# EAGLE library part BTM-720 (library rayson__btm_bluetooth_modul)
The module is a Max.4dBm( Class2 ) module. Fully Qualified Bluetooth v2.0+EDR system. Integrated Switched-Mode Regulator. Integrated Battery Charger. Embedded Kalimba DSP Co-Processor. Integrated 16-bit Stereo Audio CODEC 95dB SNR for DAC. Enhanced Audibility and Noise Cancellation. Integrated with 16M bits flash memory. Support Host Interface: USB or UART. Support Digital Audio Bus : PCM, I2S or SPDIF. HSP/HFP/A2DP/AVRCP profiles support. RoHS compliant. Small outline. 16 x 15 x 2.2 mm.
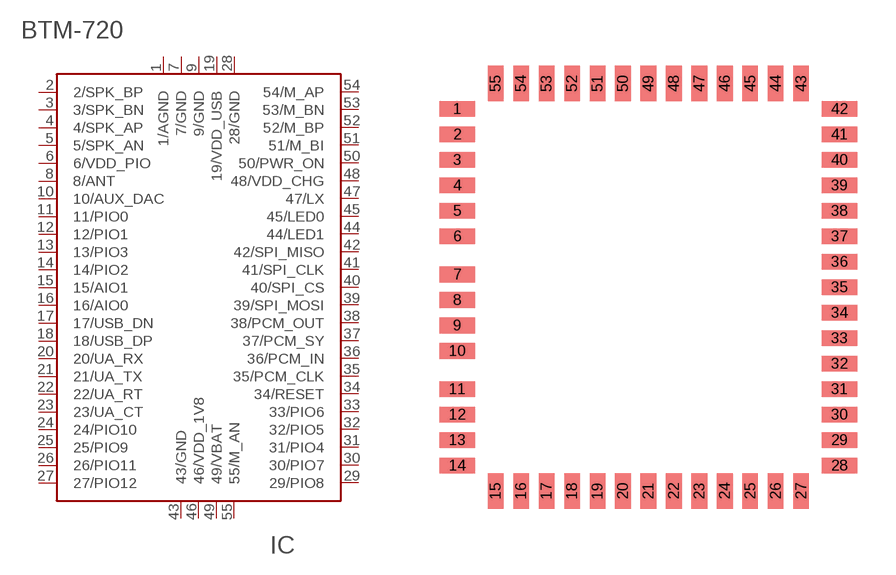
[diagram p5: symbol with the pads of BTM-720-730-740; footprint BTM-720-730-740]

Designator prefix IC

## BTM-720  [BTM-720-730-740]
1  1/AGND  pwr
2  2/SPK_BP  out
3  3/SPK_BN  out
4  4/SPK_AP  out
5  5/SPK_AN  out
6  6/VDD_PIO
7  7/GND  pwr
8  8/ANT
9  9/GND  pwr
10  10/AUX_DAC  out
11  11/PIO0
12  12/PIO1
13  13/PIO3
14  14/PIO2
15  15/AIO1
16  16/AIO0
17  17/USB_DN
18  18/USB_DP
19  19/VDD_USB  pwr
20  20/UA_RX  in
21  21/UA_TX  out
22  22/UA_RT  out
23  23/UA_CT  in
24  24/PIO10
25  25/PIO9
26  26/PIO11
27  27/PIO12
28  28/GND  pwr
29  29/PIO8
30  30/PIO7
31  31/PIO4
32  32/PIO5
33  33/PIO6
34  34/RESET  in
35  35/PCM_CLK
36  36/PCM_IN  in
37  37/PCM_SY
38  38/PCM_OUT  out
39  39/SPI_MOSI  in
40  40/SPI_CS  in
41  41/SPI_CLK  in
42  42/SPI_MISO  out
43  43/GND  pwr
44  44/LED1  out
45  45/LED0  out
46  46/VDD_1V8  pwr
47  47/LX  out
48  48/VDD_CHG  in
49  49/VBAT  pwr
50  50/PWR_ON
51  51/M_BI  in
52  52/M_BP  in
53  53/M_BN  in
54  54/M_AP  in
55  55/M_AN  in

## Footprint BTM-720-730-740 (pad centres in mm)
smd 1.4 x 0.61: 1 -7.5,7; 2 -7.5,6; 3 -7.5,5; 4 -7.5,4; 5 -7.5,3; 6 -7.5,2; 7 -7.5,0.5; 8 -7.5,-0.5; 9 -7.5,-1.5; 10 -7.5,-2.5; 11 -7.5,-4; 12 -7.5,-5; 13 -7.5,-6; 14 -7.5,-7; 28 7.5,-7; 29 7.5,-6; 30 7.5,-5; 31 7.5,-4; 32 7.5,-3; 33 7.5,-2; 34 7.5,-1; 35 7.5,0; 36 7.5,1; 37 7.5,2; 38 7.5,3; 39 7.5,4; 40 7.5,5; 41 7.5,6; 42 7.5,7
smd 0.61 x 1.4: 15 -6,-8; 16 -5,-8; 17 -4,-8; 18 -3,-8; 19 -2,-8; 20 -1,-8; 21 0,-8; 22 1,-8; 23 2,-8; 24 3,-8; 25 4,-8; 26 5,-8; 27 6,-8; 43 6,8; 44 5,8; 45 4,8; 46 3,8; 47 2,8; 48 1,8; 49 0,8; 50 -1,8; 51 -2,8; 52 -3,8; 53 -4,8; 54 -5,8; 55 -6,8